# Altium schematic symbol library FBXXXX.SchLib: 2 symbols
Pins are listed as number, name and electrical type; pins without a type are passive.

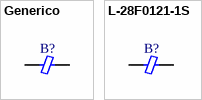
[diagram p0: symbols Generico to L-28F0121-1S]

## Generico
designator B?
Manufacturer Part Number: *; Working Temperature: *; Temperature Coefficient: *; Mounting: *; Short Description: *; Power: *; Ratings: *; Type: *; Frequency: *; Alternate Part Number 1: *; Alternate Part Number 2: *; Manufacturer: *; Tolerance: *; Current: *; Revision Date: *; Package Reference: *; Voltage: *; Value: *
pins: 1, 2

## L-28F0121-1S
designator B?
96 Ohms @ 100 MHz 1 Power Line Ferrite Bead 2-SMD, J-Lead 10A 1mOhm; Manufacturer Part Number: 28F0121-1SR-10; Manufacturer: Laird-Signal Integrity Products; Working Temperature: -40°C ~ 125°C; Temperature Coefficient: NC; Short Description: FERRITE BEAD 96 OHM 2SMD 1LN; Ratings: REACH, ROHS3; Mounting: SMT; Power: NC; Type: Ferrite; Frequency: NC; Alternate Part Number 1: *; Alternate Part Number 2: *; Tolerance: NC; Current: 10A; Revision Date: 02/08/21; Package Reference: 3312; Voltage: NC; Value: 96 Ohms @ 100 MHz
footprint FB8530 (Footprint not found)
pins: 1, 2